# Altium schematic symbol library SCH - POWER - MODULE - MPS MP8040.Schlib: 1 symbol
Pins are listed as number, name and electrical type; pins without a type are passive.

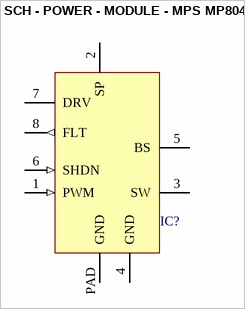
[diagram p0: symbol SCH - POWER - MODULE - MPS MP8040]

## SCH - POWER - MODULE - MPS MP8040
designator IC?
footprint SOIC8E_MPS (SOIC, 8-Leads, Body 4,90x3,90mm, Pitch 1,27mm, Thermal Pad 3,45.2x2,00.2mm, IPC Medium Density)
pins: 1 PWM (in), 2 SP, 3 SW, 4 GND (power), 5 BS, 6 SHDN (in), 7 DRV (power), 8 FLT (out), PAD GND (power)